# EAGLE library part L6470 (library reprap)
Fully integrated microstepping motor driver with motion engine and SPI
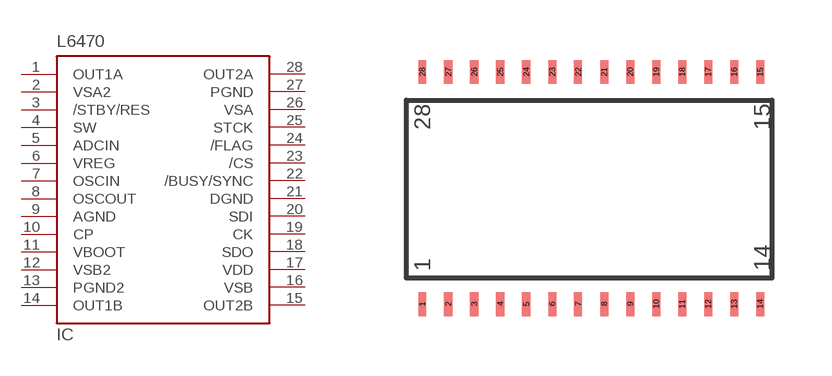
[diagram p13: symbol with the pads of HTSSOP28; footprint HTSSOP28]

Designator prefix IC

## L6470  [HTSSOP28]
1  OUT1A  out
2  VSA2  pwr
3  /STBY/RES  in
4  SW  in
5  ADCIN  in
6  VREG  pwr
7  OSCIN  in
8  OSCOUT  out
9  AGND  pwr
10  CP  out
11  VBOOT  sup
12  VSB2  pwr
13  PGND2  pwr
14  OUT1B  out
15  OUT2B  out
16  VSB  pwr
17  VDD  pwr
18  SDO  out
19  CK  in
20  SDI  in
21  DGND  pwr
22  /BUSY/SYNC  out
23  /CS  in
24  /FLAG  out
25  STCK  in
26  VSA  pwr
27  PGND  pwr
28  OUT2A  out

## Footprint HTSSOP28 (pad centres in mm)
smd 0.2 x 0.6: 1 -4.445,-3.26; 2 -3.795,-3.26; 3 -3.145,-3.26; 4 -2.495,-3.26; 5 -1.845,-3.26; 6 -1.195,-3.26; 7 -0.545,-3.26; 8 0.105,-3.26; 9 0.755,-3.26; 10 1.405,-3.26; 11 2.055,-3.26; 12 2.705,-3.26; 13 3.355,-3.26; 14 4.005,-3.26; 15 4.005,2.54; 16 3.355,2.54; 17 2.705,2.54; 18 2.055,2.54; 19 1.405,2.54; 20 0.755,2.54; 21 0.105,2.54; 22 -0.545,2.54; 23 -1.195,2.54; 24 -1.845,2.54; 25 -2.495,2.54; 26 -3.145,2.54; 27 -3.795,2.54; 28 -4.445,2.54